# EAGLE library part 504050-0691 (library con-Molex)
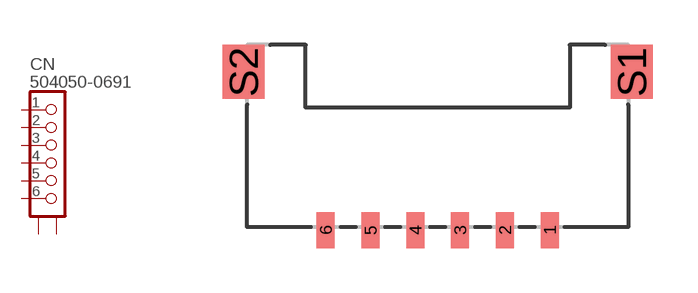
[diagram p9: symbol with the pads of 504050-0691; footprint 504050-0691]

Designator prefix CN

## 504050-0691  [504050-0691]
1  1  pas
2  2  pas
3  3  pas
4  4  pas
5  5  pas
6  6  pas
S1  S1  pas
S2  S2  pas

## Footprint 504050-0691 (pad centres in mm)
smd 0.6 x 1.2: 1 3.75,-0.1; 2 2.25,-0.1; 3 0.75,-0.1; 4 -0.75,-0.1; 5 -2.25,-0.1; 6 -3.75,-0.1
smd 1.4 x 1.8: S1 6.5,5.2; S2 -6.5,5.2